# EAGLE library part 68712414022 (library Eagle_FPC_CONNECTOR_AND_FFC_CAB (rev18c))
WR-FPC 0.5mm SMT ZIF Horizontal Top Contact, 24 Pins=>Code : Con_FPC_ZIF_0.50_68712414022 <http://katalog.we-online.de/media/images/eican/Con_FPC_ZIF_0.50_6871xx14022_pf2.jpg> Details see: http://katalog.we-online.de/en/em/687_1xx_140_22 Created 2014-07-09, Karrer Zheng 2014 (C) Würth Elektronik
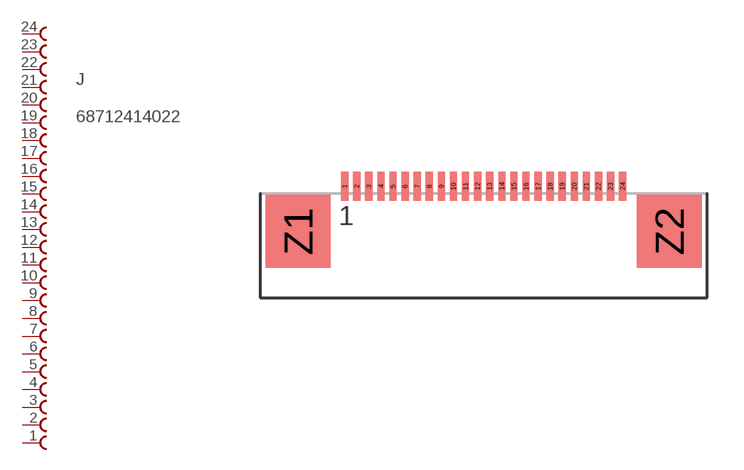
[diagram p25: symbol with the pads of 68712414022; footprint 68712414022]

Designator prefix J

## 68712414022  [68712414022]
1  24  pas
2  23  pas
3  22  pas
4  21  pas
5  20  pas
6  19  pas
7  18  pas
8  17  pas
9  16  pas
10  15  pas
11  14  pas
12  13  pas
13  12  pas
14  11  pas
15  10  pas
16  9  pas
17  8  pas
18  7  pas
19  6  pas
20  5  pas
21  4  pas
22  3  pas
23  2  pas
24  1  pas

## Footprint 68712414022 (pad centres in mm)
WR-FPC 0.5mm SMT ZIF Horizontal Top Contact, 24 Pins
smd 0.3 x 1.2: 1 -5.75,1.86; 2 -5.25,1.86; 3 -4.75,1.86; 4 -4.25,1.86; 5 -3.75,1.86; 6 -3.25,1.86; 7 -2.75,1.86; 8 -2.25,1.86; 9 -1.75,1.86; 10 -1.25,1.86; 11 -0.75,1.86; 12 -0.25,1.86; 13 0.25,1.86; 14 0.75,1.86; 15 1.25,1.86; 16 1.75,1.86; 17 2.25,1.86; 18 2.75,1.86; 19 3.25,1.86; 20 3.75,1.86; 21 4.25,1.86; 22 4.75,1.86; 23 5.25,1.86; 24 5.75,1.86
smd 2.7 x 3: Z1 -7.68,0; Z2 7.68,0